# EAGLE library part MAX3421EEHJ+ (library Signetics)
MAX3421EEHJ+, USB Controller 12 Mbit/s USB 2.0, 3.3 V, 32-Pin, TQFP Source: Datasheet
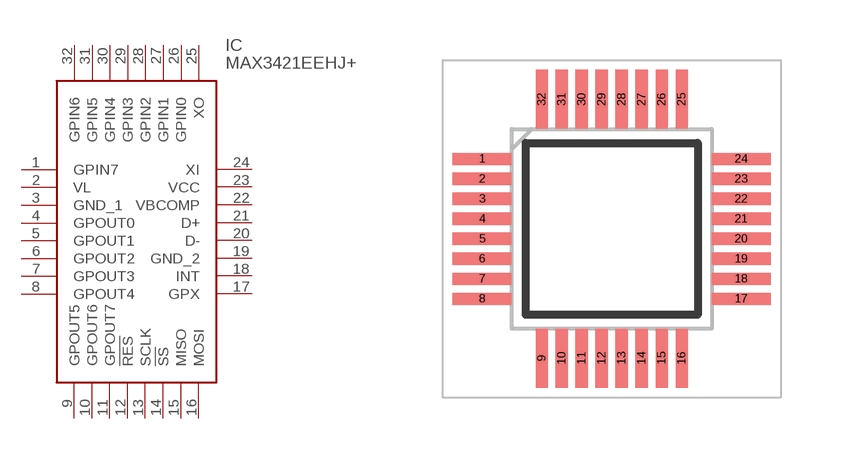
[diagram p18: symbol with the pads of QFP50P700X700X120-32N; footprint QFP50P700X700X120-32N]

Designator prefix IC

## MAX3421EEHJ+ (DESCRIPTION: MAX3421EEHJ+, USB Controller 12 Mbit/s USB 2.0, 3.3 V, 32-Pin, TQFP; HEIGHT: 1.2mm; MANUFACTURER_NAME: Maxim Integrated; MANUFACTURER_PART_NUMBER: MAX3421EEHJ+; MOUSER_PART_NUMBER: 700-MAX3421EEHJ; MOUSER_PRICE-STOCK: https://www.mouser.co.uk/ProductDetail/Maxim-Integrated/MAX3421EEHJ%2b?qs=1THa7WoU59FLwATVjyu%252Brg%3D%3D)  [QFP50P700X700X120-32N]
1  GPIN7
2  VL
3  GND_1
4  GPOUT0
5  GPOUT1
6  GPOUT2
7  GPOUT3
8  GPOUT4
9  GPOUT5
10  GPOUT6
11  GPOUT7
12  !RES
13  SCLK
14  !SS
15  MISO
16  MOSI
17  GPX
18  INT
19  GND_2
20  D-
21  D+
22  VBCOMP
23  VCC
24  XI
25  XO
26  GPIN0
27  GPIN1
28  GPIN2
29  GPIN3
30  GPIN4
31  GPIN5
32  GPIN6

## Footprint QFP50P700X700X120-32N (pad centres in mm)
32 TQFP 5x5
smd 1.475 x 0.3: 1 -3.238,1.75; 2 -3.238,1.25; 3 -3.238,0.75; 4 -3.238,0.25; 5 -3.238,-0.25; 6 -3.238,-0.75; 7 -3.238,-1.25; 8 -3.238,-1.75; 17 3.238,-1.75; 18 3.238,-1.25; 19 3.238,-0.75; 20 3.238,-0.25; 21 3.238,0.25; 22 3.238,0.75; 23 3.238,1.25; 24 3.238,1.75
smd 0.3 x 1.475: 9 -1.75,-3.238; 10 -1.25,-3.238; 11 -0.75,-3.238; 12 -0.25,-3.238; 13 0.25,-3.238; 14 0.75,-3.238; 15 1.25,-3.238; 16 1.75,-3.238; 25 1.75,3.238; 26 1.25,3.238; 27 0.75,3.238; 28 0.25,3.238; 29 -0.25,3.238; 30 -0.75,3.238; 31 -1.25,3.238; 32 -1.75,3.238